# Altium integrated library mechanical.IntLib: 2 symbols
Pins are listed as number, name and electrical type; pins without a type are passive.

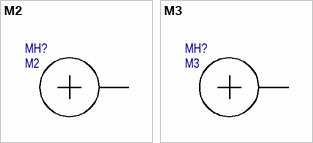
[diagram p0: symbols M2 to M3]

## M2
designator MH?  (no BOM)
отверстие М2
footprint M2
pins: 1

## M3
designator MH?  (no BOM)
отверстие М3
footprint M3
pins: 1